# Altium schematic symbol library catvfoctrl.SCHLIB: 25 symbols
Pins are listed as number, name and electrical type; pins without a type are passive.

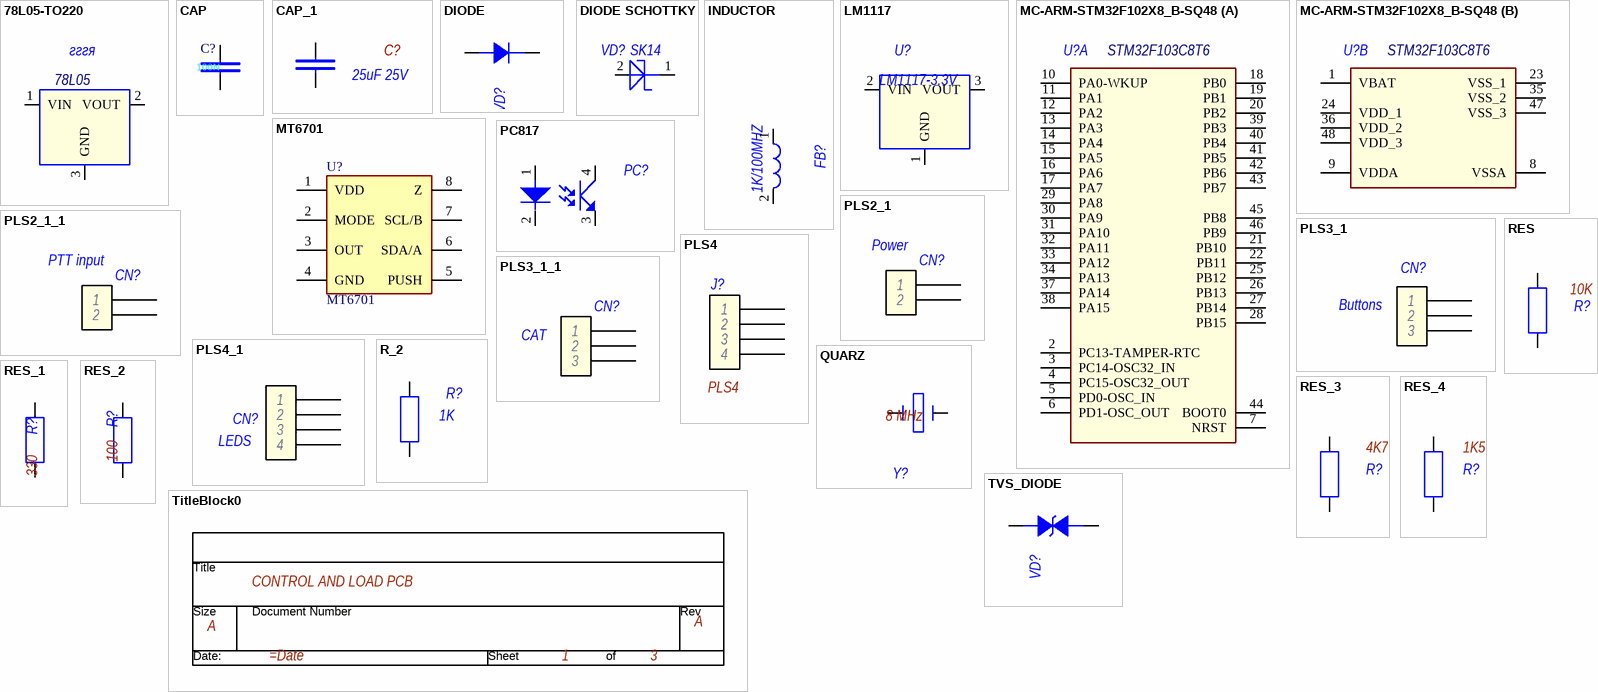
[diagram p0: symbols 78L05-TO220 to TVS_DIODE]

## 78L05-TO220
designator гггя, comment 78L05
IC REG LINEAR 5V 100MA TO-220; Manufacturer: TOREX; Part Number: XC6206; PCB Footprint: SOT23
footprint TO-220 (TO, Thru-Hole, Vertical, Heatsink Mounted; 3 In-Line Leads; Pitch 2.54 mm)
footprint SOT252
pins: 1 VIN, 2 VOUT, 3 GND (power)

## CAP
designator C?, comment 100N
CAP CER 0.1UF 50V 10% X5R 0805; PCB Footprint: SM0805; MEMORY: NO
footprint CAP0805
footprint C1808
footprint C1812
pins: 1, 2

## CAP_1
designator C?, comment 25uF 25V
CAP CER 100UF 10V 10% X5R 0805; PCB Footprint: SM0805; MEMORY: NO
footprint CAP0805
footprint C1808
footprint C1812
footprint C1206
pins: 1, 2

## DIODE
designator VD?, comment FDLL4148  (value not drawn)
DIODE SMALL SIG 100V 0.2A LL34 Fairchild Semiconductor FDLL4148; PCB Footprint: MLL34
footprint MLL34
pins: 1 ANODE, 2 CATHODE

## DIODE SCHOTTKY
designator VD?, comment SK14
Part Number: SK14; PCB Footprint: SK14
footprint SK14
pins: 1, 2

## INDUCTOR
designator FB?, comment 1K/100MHZ
FERRITE BEAD 0805 1000 OHM/100 MHZ 1.5A; Part Number: 330uH; PCB Footprint: L_DR73
footprint L_DR73
footprint L0805
pins: 1, 2

## LM1117
designator U?, comment LM1117-3.3V
IC REG LINEAR 1.8V 800MA ТО-252; Manufacturer: TOREX; Part Number: XC6206; PCB Footprint: SOT23
footprint SOT252
pins: 1 GND (power), 2 VIN, 3 VOUT

## MC-ARM-STM32F102X8_B-SQ48
designator U?, comment STM32F103C8T6
ARM Cortex-M3 32-bit MCU, 64 KB Flash, 10 KB Internal RAM, 37 I/Os, 48-pin LQFP, -40 to 85 degC, Tray; PartNumber: STM32F102C8T6; A/D Converter: 1x12-bit (10 Channel); FLASH Size (Prog) (kB): 64; I/Os (High Current): 37; Internal RAM Size (kB): 10; Operating Frequency(F) (Processor speed) (MHz): 48; Supply Voltage(Vcc) min (V): 2; DatasheetVersion: Rev. 5; PackageVersion: Rev. 6, 06/2013; PackageReference: LQFP48; PackageDescription: 48-Pin Low Profile Quad Flat Package, 7 x 7 mm Body, 0.5 mm Pitch; Supplier 1: Digi-Key; Supplier Part Number 1: 497-8307-ND; Supplier 2: Farnell; Supplier Part Number 2: 2333153; Supplier 3: Newark; Supplier Part Number 3: 99W9777; Supplier 4: Mouser; Supplier Part Number 4: 511-STM32F102C8T6; Core: ARM Cortex-M3; Packing: Tray; Mounting Technology: Surface Mount; ComponentLink1Description: Manufacturer URL; ComponentLink1URL: http://www.st.com/web/en/home.html; ComponentLink2Description: Datasheet; ComponentLink2URL: http://www.st.com/st-web-ui/static/active/en/resource/technical/document/datasheet/CD00210831.pdf; ComponentLink3Description: Package Specification; ComponentLink3URL: http://www.st.com/st-web-ui/static/active/en/resource/technical/document/datasheet/DM00058181.pdf
footprint STM-LQFP48_L (QFP, 48-Leads, Body 7x7mm, Pitch 0.5mm, IPC High Density)
part A pins: 2 PC13-TAMPER-RTC "PC13-TAMPER-RTC/PC13/TAMPER-RTC", 3 PC14-OSC32_IN "PC14-OSC32_IN/PC14/OSC32_IN", 4 PC15-OSC32_OUT "PC15-OSC32_OUT/PC15/OSC32_OUT", 5 PD0-OSC_IN "PD0/OSC_IN", 6 PD1-OSC_OUT "PD1/OSC_OUT", 7 NRST, 10 PA0-WKUP "PA0-WKUP/PA0/WKUP/USART2_CTS/ADC_IN0/TIM2_CH1_ETR", 11 PA1 "PA1/USART2_RTS/ADC_IN1/TIM2_CH2", 12 PA2 "PA2/USART2_TX/ADC_IN2/TIM2_CH3", 13 PA3 "PA3/USART2_RX/ADC_IN3/TIM2_CH4", 14 PA4 "PA4/SPI1_NSS/ADC_IN4/USART2_CK", 15 PA5 "PA5/SPI1_SCK/ADC_IN5", 16 PA6 "PA6/SPI1_MISO/ADC_IN6/TIM3_CH1", 17 PA7 "PA7/SPI1_MOSI/ADC_IN7/TIM3_CH2", 18 PB0 "PB0/ADC_IN8/TIM3_CH3", 19 PB1 "PB1/ADC_IN9/TIM3_CH4", 20 PB2 "PB2/BOOT1", 21 PB10 "PB10/I2C2_SCL/USART3_TX/TIM2_CH3", 22 PB11 "PB11/I2C2_SDA/USART3_RX/TIM2_CH4", 25 PB12 "PB12/SPI2_NSS/I2C2_SMBA/USART3_CK", 26 PB13 "PB13/SPI2_SCK/USART3_CTS", 27 PB14 "PB14/SPI2_MISO/USART3_RTS", 28 PB15 "PB15/SPI2_MOSI", 29 PA8 "PA8/USART1_CK/MCO", 30 PA9 "PA9/USART1_TX", 31 PA10 "PA10/USART1_RX", 32 PA11 "PA11/USART1_CTS/USB_DM", 33 PA12 "PA12/USART1_RTS/USB_DP", 34 PA13 "PA13/JTMS-SWDIO", 37 PA14 "PA14/JTCK/SWCLK", 38 PA15 "PA15/JTDI/TIM2_CH1_ETR/SPI1_NSS", 39 PB3 "PB3/JTDO/TIM2_CH2/TRACESWO/SPI1_SCK", 40 PB4 "PB4/NJTRST/TIM3_CH1/SPI1_MISO", 41 PB5 "PB5/I2C1_SMBA/TIM3_CH2/SPI1_MOSI", 42 PB6 "PB6/I2C1_SCL/TIM4_CH1/USART1_TX", 43 PB7 "PB7/I2C1_SDA/TIM4_CH2/USART1_RX", 44 BOOT0, 45 PB8 "PB8/TIM4_CH3/I2C1_SCL", 46 PB9 "PB9/TIM4_CH4/I2C1_SDA"
part B pins: 1 VBAT, 8 VSSA, 9 VDDA, 23 VSS_1, 24 VDD_1, 35 VSS_2, 36 VDD_2, 47 VSS_3, 48 VDD_3

## MT6701
designator U?
Hall Based Angle Position Encoder Sensor
footprint SO8
footprint MT6701
pins: 1 VDD, 2 MODE, 3 OUT, 4 GND, 5 PUSH, 6 SDA/A, 7 SCL/B, 8 Z

## PC817
designator PC?, comment PC817XNNIP0F  (value not drawn)
OPTOISOLATOR 5KV TRANS 4SMD Sharp Microelectronics PC817XNNIP0F; PCB Footprint: P817_SMD
footprint P817_SMD
pins: 1 ANODE, 2 CATHODE, 3 EMITTER, 4 COLLECTOR

## PLS2_1
designator CN?, comment Power
footprint CON1x5
footprint JST2
pins: 1, 2

## PLS2_1_1
designator CN?, comment PTT input
footprint CON1x5
footprint JST2
pins: 1, 2

## PLS3_1
designator CN?, comment Buttons
footprint CON1x5
footprint JST5
footprint JST3
pins: 1, 2, 3

## PLS3_1_1
designator CN?, comment CAT
footprint CON1x5
footprint JST5
footprint JST3
pins: 1, 2, 3

## PLS4
designator J?
PLS HEADER 2.54 MALE 4 PINS
footprint CON1x5
footprint CON1x4_R_D
footprint CON1x4
footprint JST4
pins: 1, 2, 3, 4

## PLS4_1
designator CN?, comment LEDS
footprint CON1x5
footprint JST4
pins: 1, 2, 3, 4

## QUARZ
designator Y?, comment 8 MHz
Кварцевый резонатор 8 Мгц HC49-US (низкий профиль); HPI_PN: 370007-005; PCB Footprint: QUARTZ_TH
footprint QUARTZ_TH
footprint HC206
pins: 1, 2

## R_2
designator R?, comment 1K
REZISTOR 1K OHM SMD 0805 0.125WT 5%; MEMORY: NO; PCB Footprint: SM0805
footprint RES0805
pins: 1, 2

## RES
designator R?, comment 10K
REZISTOR 10K OHM SMD 0805 0.125WT 5%; MEMORY: NO; PCB Footprint: SM0805
footprint RES0805
footprint R1812
pins: 1, 2

## RES_1
designator R?, comment 330
REZISTOR 330 OHM SMD 0805 0.125WT 5%; MEMORY: NO; PCB Footprint: SM0805
footprint RES0805
footprint R1812
pins: 1, 2

## RES_2
designator R?, comment 100
REZISTOR 100 OHM SMD 0805 0.125WT 5%; MEMORY: NO; PCB Footprint: SM0805
footprint RES0805
footprint R1812
pins: 1, 2

## RES_3
designator R?, comment 4K7
REZISTOR 4K7 OHM SMD 0805 0.125WT 5%; MEMORY: NO; PCB Footprint: SM0805
footprint RES0805
footprint R1812
pins: 1, 2

## RES_4
designator R?, comment 1K5
REZISTOR 4K7 OHM SMD 0805 0.125WT 5%; MEMORY: NO; PCB Footprint: SM0805
footprint RES0805
footprint R1812
pins: 1, 2

## TitleBlock0
designator *?  Page Count: 3  Page Number: 1  Page Size: A  Title: CONTROL AND LOAD PCB  (hidden comment: TitleBlock0)  (graphical)
Page Create Date: March  8, 1995; RevCode: A; Page Modify Date: =Date
text: Title; Size; Document Number; Rev; Date:; Sheet; of

## TVS_DIODE
designator VD?, comment SMBJ5.0A-E3/52 UNIPOLAR  (value not drawn)
TVS DIODE 18VWM 58.1VC SMA SMAJ18A; PCB Footprint: SMA
footprint SMA
pins: 1 ANODE, 2 CATHODE